# Altium footprint library common.PcbLib: 42 footprints (part 2 of 3)
Each footprint in its own frame and in the unit in brackets; x right, y up, seen from the top. Pads: shape width x height; smd on the part's side, far side on the other; paste and mask are expansions set on the pad; w line width, h text height; cw(c..) or ccw(c..) is an arc to the next point about the centre after c.
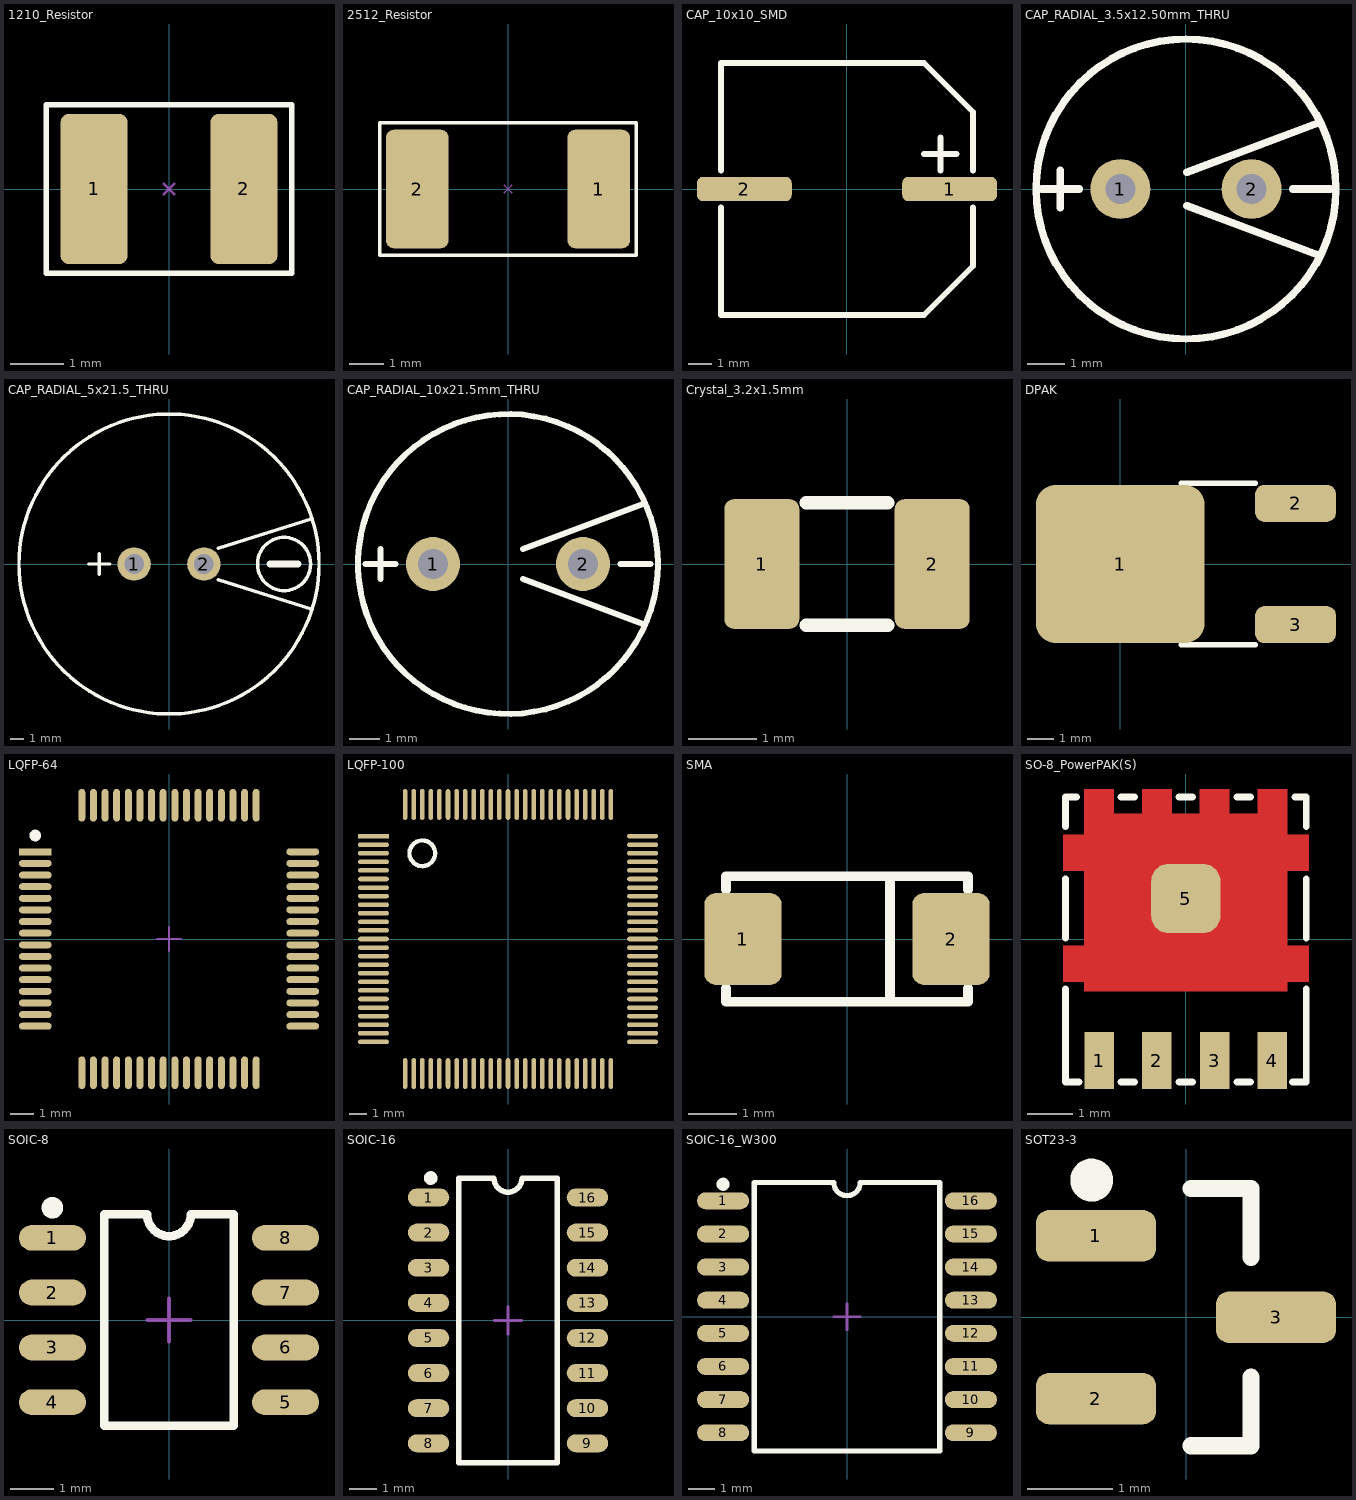
[diagram p1: the footprints below, top view; thin cyan lines are the x and y axes]

## 1210_Resistor [mm] "1210 Resistor"
height 1.1
pads (2):
  rrect25% 1.25x2.8 smd: 1(-1.397,0) 2(1.397,0)
Top Overlay:
  lines w0.102: -2.286,-1.575 -2.286,1.575 2.286,1.575 2.286,-1.575 -2.286,-1.575
Mechanical 15:
  lines w0.05: -0.1,-0.1 0.1,0.1 ; -0.1,0.1 0.1,-0.1
3D body "User Library-R1210.step": height 0.47, standoff 0, extent -1.55,-1.301 1.55,1.301

## 2512_Resistor [mm] "2512 Resistor"
pads (2):
  rrect25% 1.8x3.4 smd: 1(2.6,0) 2(-2.6,0)
Top Overlay:
  lines w0.102: -3.683,-1.905 -3.683,1.905 3.683,1.905 3.683,-1.905 -3.683,-1.905
Mechanical 15:
  lines w0.05: -0.1,-0.1 0.1,0.1 ; -0.1,0.1 0.1,-0.1
3D body "User Library-R2512-1.step": height 0.56, standoff 0.01, extent -3.35,-1.6 3.35,1.6

## CAP_10x10_SMD [mm]
pads (2):
  rrect50% 4.064x1.05 smd: 1(4.4,0) 2(-4.4,0)
Top Overlay:
  lines w0.254: -5.4,-0.8 -5.4,-5.4 3.3,-5.4 5.4,-3.3 5.4,-0.8 ; -5.4,0.8 -5.4,5.4 3.3,5.4 5.4,3.3 5.4,0.8 ; 3.3,1.5 4.7,1.5 ; 4.016,0.8 4.016,2.2
3D body "User Library-cap_10x10x10-1.STEP": height 10.51, standoff 0.01, extent -5.899,-5.25 5.901,5.25

## CAP_RADIAL_3.5x12.50mm_THRU [mm]
height 12.5
pads (2):
  round 1.6 hole 0.8: 1(-1.75,0) 2(1.75,0)
Top Overlay:
  circle w0.2: c0,0 r4
  lines w0.203: -3.85,0 -2.85,0 ; -3.35,-0.5 -3.35,0.5 ; 0.021,-0.445 3.517,-1.756 ; 0.021,0.445 3.517,1.756 ; 2.85,0 3.85,0
3D body "User Library-Cap-EL(8x12-3_5)T.step": height 12.31, standoff -3.29, extent -4,-4 4.002,4

## CAP_RADIAL_5x21.5_THRU [mm] "Radial Capacitor 5mm lead spacing, 21.5mm diameter, 8mm tall"
height 8
pads (2):
  round 2.4 hole 1.4: 1(-2.5,0) 2(2.5,0)
Top Overlay:
  circle w0.25: c8.25,0 r1.904
  circle w0.25: c0,0 r10.75
  lines w0.25: -5.75,0 -4.25,0 ; -5,-0.75 -5,0.75 ; 3.54,-1.123 10.25,-3.25 ; 3.54,1.123 10.25,3.25
  lines w0.5: 7.25,0 9.25,0
3D body "User Library-Ionistor.step": height 8.01, standoff -6, extent -10.75,-10.75 10.76,10.75

## CAP_RADIAL_10x21.5mm_THRU [mm] "Aluminum Capacitor Radial"
height 21.5
pads (2):
  round 1.8 hole 1: 1(-2.5,0) 2(2.5,0)
Top Overlay:
  circle w0.2: c0,0 r5
  lines w0.203: -4.75,0 -3.75,0 ; -4.25,-0.5 -4.25,0.5 ; 0.5,-0.5 4.5,-2 ; 0.5,0.5 4.5,2 ; 3.75,0 4.75,0
3D body "User Library-Cap-EL(10x20-5).step": height 20, standoff -3.3, extent -5,-5 5.002,5

## Crystal_3.2x1.5mm [mm] "3.2x1.5mm 2-pad no lead Cystal SMD"
pads (2):
  rrect25% 1.1x1.9 smd: 1(-1.25,0) 2(1.25,0)
Top Overlay:
  lines w0.2: -0.6,-0.9 0.6,-0.9 ; -0.6,0.9 0.6,0.9
3D body "User Library-FX135A-327.step": height 0.92, standoff 0.01, extent -1.6,-0.75 1.6,0.75
3D body: height 1.02, standoff -0.98, extent -0.325,0.775 -0.325,0.775

## DPAK [mil] "DPAK, 3-pin TO252"
pads (3):
  rrect25% 250x235 smd: 1(0,0)
  rrect50% 120x55 smd: 2(260,90) 3(260,-90)
Top Overlay:
  lines w7.87: 90,-120 200,-120 ; 90,120 200,120
3D body "dpak.stp": height 90.55, standoff 0, extent -82.68,-127.95 291.34,127.95

## LQFP-64 [mm] "TSQFP, 64-Leads, Body 12.0x12.0mm (max), Pitch 0.50mm, IPC Medium Density"
height 1.6
pads (64):
  rect 1.4x0.3 smd: 1(-5.75,3.75)
  oval 1.4x0.3 smd: 2(-5.75,3.25) 3(-5.75,2.75) 4(-5.75,2.25) 5(-5.75,1.75) 6(-5.75,1.25) 7(-5.75,0.75) 8(-5.75,0.25) 9(-5.75,-0.25) 10(-5.75,-0.75) 11(-5.75,-1.25) 12(-5.75,-1.75) 13(-5.75,-2.25) 14(-5.75,-2.75) 15(-5.75,-3.25) 16(-5.75,-3.75) 33(5.75,-3.75) 34(5.75,-3.25) 35(5.75,-2.75) 36(5.75,-2.25) 37(5.75,-1.75) 38(5.75,-1.25) 39(5.75,-0.75) 40(5.75,-0.25) 41(5.75,0.25) 42(5.75,0.75) 43(5.75,1.25) 44(5.75,1.75) 45(5.75,2.25) 46(5.75,2.75) 47(5.75,3.25) 48(5.75,3.75)
  oval 0.3x1.4 smd: 17(-3.75,-5.75) 18(-3.25,-5.75) 19(-2.75,-5.75) 20(-2.25,-5.75) 21(-1.75,-5.75) 22(-1.25,-5.75) 23(-0.75,-5.75) 24(-0.25,-5.75) 25(0.25,-5.75) 26(0.75,-5.75) 27(1.25,-5.75) 28(1.75,-5.75) 29(2.25,-5.75) 30(2.75,-5.75) 31(3.25,-5.75) 32(3.75,-5.75) 49(3.75,5.75) 50(3.25,5.75) 51(2.75,5.75) 52(2.25,5.75) 53(1.75,5.75) 54(1.25,5.75) 55(0.75,5.75) 56(0.25,5.75) 57(-0.25,5.75) 58(-0.75,5.75) 59(-1.25,5.75) 60(-1.75,5.75) 61(-2.25,5.75) 62(-2.75,5.75) 63(-3.25,5.75) 64(-3.75,5.75)
Top Overlay:
  circle w0.25: c-5.75,4.45 r0.125
Mechanical 15:
  lines w0.1: -0.5,0 0.5,0 ; 0,-0.5 0,0.5
3D body "User Library-LQFP64_Grid_0_5.STEP": height 1.6, standoff 0, extent -5.994,-6 6.006,6

## LQFP-100 [mm] "100 pin LQFP, 0.5mm pitch"
pads (100):
  rect 1.8x0.27 smd: 1(-7.85,6)
  oval 1.8x0.27 smd: 2(-7.85,5.5) 3(-7.85,5) 4(-7.85,4.5) 5(-7.85,4) 6(-7.85,3.5) 7(-7.85,3) 8(-7.85,2.5) 9(-7.85,2) 10(-7.85,1.5) 11(-7.85,1) 12(-7.85,0.5) 13(-7.85,0) 14(-7.85,-0.5) 15(-7.85,-1) 16(-7.85,-1.5) 17(-7.85,-2) 18(-7.85,-2.5) 19(-7.85,-3) 20(-7.85,-3.5) 21(-7.85,-4) 22(-7.85,-4.5) 23(-7.85,-5) 24(-7.85,-5.5) 25(-7.85,-6) 51(7.85,-6) 52(7.85,-5.5) 53(7.85,-5) 54(7.85,-4.5) 55(7.85,-4) 56(7.85,-3.5) 57(7.85,-3) 58(7.85,-2.5) 59(7.85,-2) 60(7.85,-1.5) 61(7.85,-1) 62(7.85,-0.5) 63(7.85,0) 64(7.85,0.5) 65(7.85,1) 66(7.85,1.5) 67(7.85,2) 68(7.85,2.5) 69(7.85,3) 70(7.85,3.5) 71(7.85,4) 72(7.85,4.5) 73(7.85,5) 74(7.85,5.5) 75(7.85,6)
  oval 0.27x1.8 smd: 26(-6,-7.85) 27(-5.5,-7.85) 28(-5,-7.85) 29(-4.5,-7.85) 30(-4,-7.85) 31(-3.5,-7.85) 32(-3,-7.85) 33(-2.5,-7.85) 34(-2,-7.85) 35(-1.5,-7.85) 36(-1,-7.85) 37(-0.5,-7.85) 38(0,-7.85) 39(0.5,-7.85) 40(1,-7.85) 41(1.5,-7.85) 42(2,-7.85) 43(2.5,-7.85) 44(3,-7.85) 45(3.5,-7.85) 46(4,-7.85) 47(4.5,-7.85) 48(5,-7.85) 49(5.5,-7.85) 50(6,-7.85) 76(6,7.85) 77(5.5,7.85) 78(5,7.85) 79(4.5,7.85) 80(4,7.85) 81(3.5,7.85) 82(3,7.85) 83(2.5,7.85) 84(2,7.85) 85(1.5,7.85) 86(1,7.85) 87(0.5,7.85) 88(0,7.85) 89(-0.5,7.85) 90(-1,7.85) 91(-1.5,7.85) 92(-2,7.85) 93(-2.5,7.85) 94(-3,7.85) 95(-3.5,7.85) 96(-4,7.85) 97(-4.5,7.85) 98(-5,7.85) 99(-5.5,7.85) 100(-6,7.85)
Top Overlay:
  circle w0.254: c-5,5 r0.75
3D body "User Library-LQFP100.step": height 1.6, standoff 0, extent -8,-8 8,8

## SMA [mm] "SMA Diode"
pads (2):
  rrect30% 1.6x1.9 smd: 1(-2.15,0) 2(2.15,0)
Top Overlay:
  lines w0.2: -2.5,-1.016 -2.5,-1.3 2.5,-1.3 2.5,-1.016 ; -2.5,1.016 -2.5,1.3 2.5,1.3 2.5,1.016 ; 0.889,-1.3 0.889,1.3
3D body "User Library-SMAJ.step": height 2.01, standoff 0.01, extent -2.465,-1.24 2.465,1.3

## SO-8_PowerPAK(S) [mm] "PowerPAK Single Mosfet"
pads (5):
  rect 0.65x1.25 smd: 1(-1.905,-2.675) 2(-0.635,-2.675) 3(0.635,-2.675) 4(1.905,-2.675)
  rrect50% 1.524x1.524 smd paste+0 mask+0: 5(0,0.891)
Top Layer:
  region: -2.23,2.295 -2.695,2.295 -2.695,1.5 -2.23,1.5 -2.23,-0.145 -2.695,-0.145 -2.695,-0.94 -2.23,-0.94 -2.23,-1.15 2.23,-1.15 2.23,-0.94 2.705,-0.94 2.705,-0.145 2.23,-0.145 2.23,1.5 2.705,1.5 2.705,2.295 2.23,2.295 2.23,3.3 1.58,3.3 1.58,2.75 0.96,2.75 0.96,3.3 0.31,3.3 0.31,2.75 -0.31,2.75 -0.31,3.3 -0.96,3.3 -0.96,2.75 -1.58,2.75 -1.58,3.3 -2.23,3.3
Top Overlay:
  lines w0.152: -2.65,-1.1 -2.65,-3.15 -2.35,-3.15 ; -2.65,0.025 -2.65,1.325 ; -2.65,2.475 -2.65,3.125 -2.4,3.125 ; -1.425,-3.15 -1.125,-3.15 ; -1.425,3.125 -1.125,3.125 ; -0.15,-3.15 0.15,-3.15 ; -0.15,3.125 0.15,3.125 ; 1.125,-3.15 1.425,-3.15 ; 1.125,3.125 1.425,3.125 ; 2.35,-3.15 2.65,-3.15 2.65,-1.1 ; 2.4,3.125 2.65,3.125 2.65,2.475 ; 2.65,0.025 2.65,1.325
3D body "User Library-PowerPAK SO-8 (S).step": height 1.04, standoff 0, extent -2.575,-3.075 2.575,3.075

## SOIC-8 [mm] "SOIC, 8-Leads, Body 4.9x3.9mm (max), Pitch 1.27mm, IPC Medium Density"
height 1.75
pads (8):
  oval 1.55x0.6 smd: 1(-2.7,1.905) 2(-2.7,0.635) 3(-2.7,-0.635) 4(-2.7,-1.905) 5(2.7,-1.905) 6(2.7,-0.635) 7(2.7,0.635) 8(2.7,1.905)
Top Overlay:
  circle w0.25: c-2.7,2.6 r0.125
  lines w0.2: -1.5,-2.45 -1.5,2.45 -0.508,2.45 ccw(c0,2.45) 0.508,2.45 1.5,2.45 1.5,-2.45 -1.5,-2.45
Mechanical 15:
  lines w0.1: -0.5,0 0.5,0 ; 0,-0.5 0,0.5
3D body "so8.stp": height 1.55, standoff 0, extent -3.023,-2.464 2.977,2.479

## SOIC-16 [mm] "SOIC 16 pin"
height 1.75
pads (16):
  oval 1.5x0.65 smd: 1(-2.875,4.445) 2(-2.875,3.175) 3(-2.875,1.905) 4(-2.875,0.635) 5(-2.875,-0.635) 6(-2.875,-1.905) 7(-2.875,-3.175) 8(-2.875,-4.445) 9(2.875,-4.445) 10(2.875,-3.175) 11(2.875,-1.905) 12(2.875,-0.635) 13(2.875,0.635) 14(2.875,1.905) 15(2.875,3.175) 16(2.875,4.445)
Top Overlay:
  circle w0.25: c-2.794,5.15 r0.125
  lines w0.2: -1.778,-5.15 1.778,-5.15 1.778,5.15 0.508,5.15 cw(c0,5.15) -0.508,5.15 -1.778,5.15 -1.778,-5.15
Mechanical 15:
  lines w0.1: -0.5,0 0.5,0 ; 0,-0.5 0,0.5
3D body "User Library-so16.step": height 1.7, standoff 0, extent -3,-5.1 3,5.1

## SOIC-16_W300 [mm] "Wide SOIC"
height 1.75
pads (16):
  oval 2x0.65 smd: 1(-4.75,4.445) 2(-4.75,3.175) 3(-4.75,1.905) 4(-4.75,0.635) 5(-4.75,-0.635) 6(-4.75,-1.905) 7(-4.75,-3.175) 8(-4.75,-4.445) 9(4.75,-4.445) 10(4.75,-3.175) 11(4.75,-1.905) 12(4.75,-0.635) 13(4.75,0.635) 14(4.75,1.905) 15(4.75,3.175) 16(4.75,4.445)
Top Overlay:
  circle w0.25: c-4.75,5.08 r0.125
  lines w0.2: -3.556,-5.15 -3.556,5.15 -0.508,5.15 ccw(c0,5.15) 0.508,5.15 3.556,5.15 3.556,-5.15 -3.556,-5.15
Mechanical 15:
  lines w0.1: -0.5,0 0.5,0 ; 0,-0.5 0,0.5
3D body "User Library-SOIC16-300.step": height 2.65, standoff 0, extent -5.15,-5.15 5.15,5.15

## SOT23-3 [mm] "SOT23, 3-Leads, Body 3.0x2.7mm (max), Pitch 0.95mm, IPC Medium Density"
height 1.12
pads (3):
  rrect50% 1.4x0.6 smd: 1(-1.05,0.95) 2(-1.05,-0.95) 3(1.05,0)
Top Overlay:
  circle w0.25: c-1.1,1.6 r0.125
  lines w0.2: 0.06,-1.5 0.76,-1.5 0.76,-0.7 ; 0.06,1.5 0.76,1.5 0.76,0.7
3D body "sot-23.stp": height 1.1, standoff 0, extent -1.21,-1.1 0.991,1.1